# EAGLE library part ESP-07 (library Cominer-Wifi)
Esp-07 Module Wifi ESP8266MOD by COMINER Team
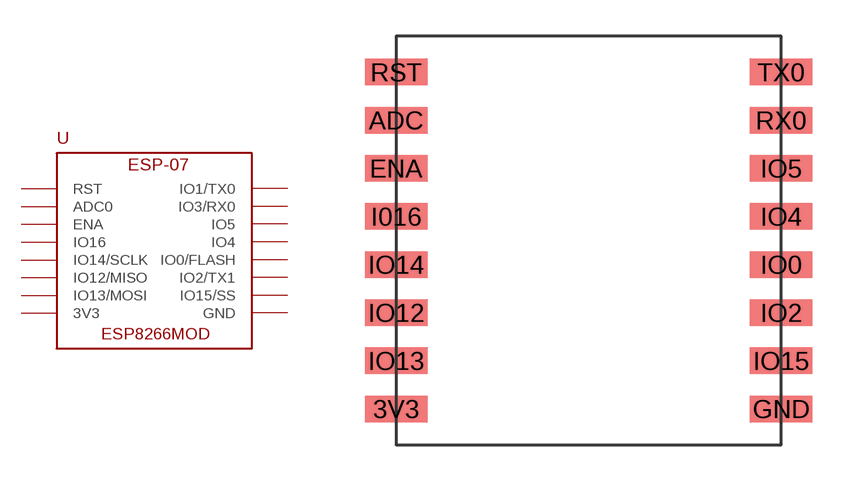
[diagram p0: symbol with the pads of ESP-07; footprint ESP-07]

Designator prefix U

## ESP-07  [ESP-07]
3V3  3V3  pwr
ADC  ADC0  in
ENA  ENA  in
GND  GND  pwr
I016  IO16
IO0  IO0/FLASH
IO2  IO2/TX1
IO4  IO4
IO5  IO5
IO12  IO12/MISO
IO13  IO13/MOSI
IO14  IO14/SCLK
IO15  IO15/SS
RST  RST  in
RX0  IO3/RX0
TX0  IO1/TX0

## Footprint ESP-07 (pad centres in mm)
smd 2.6 x 1.1: 3V3 0,1.5; ADC 0,13.5; ENA 0,11.5; GND 16,1.5; I016 0,9.5; IO0 16,7.5; IO2 16,5.5; IO4 16,9.5; IO5 16,11.5; IO12 0,5.5; IO13 0,3.5; IO14 0,7.5; IO15 16,3.5; RST 0,15.5; RX0 16,13.5; TX0 16,15.5